# Altium footprint library LED5630.PcbLib: 1 footprints
Each footprint in its own frame and in the unit in brackets; x right, y up, seen from the top. Pads: shape width x height; smd on the part's side, far side on the other; paste and mask are expansions set on the pad; w line width, h text height; cw(c..) or ccw(c..) is an arc to the next point about the centre after c.
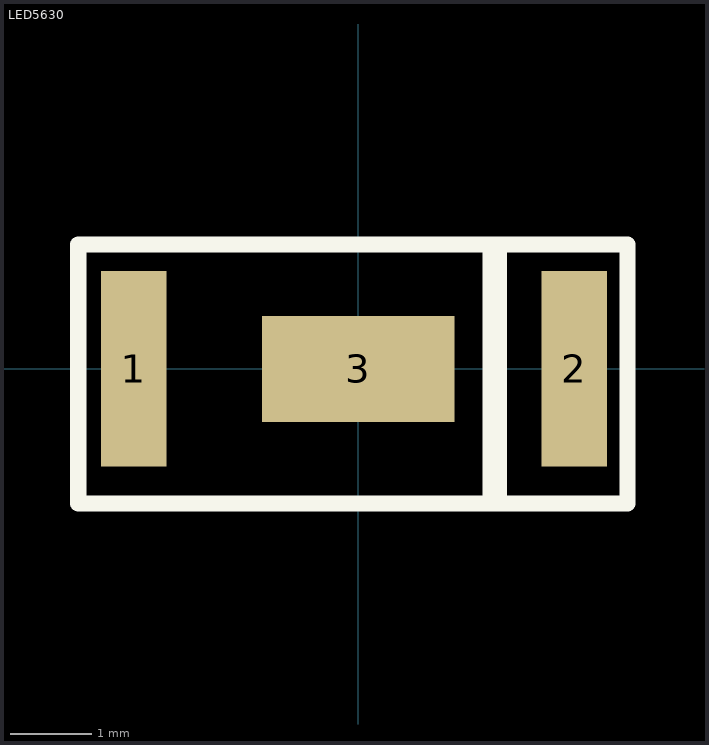
[diagram p0: the footprint, top view; thin cyan lines are the x and y axes]

## LED5630 [mm]
height 0.55
pads (3):
  rect 0.8x2.4 smd: 1(-2.75,0) 2(2.65,0)
  rect 2.36x1.3 smd: 3(0,0)
Top Overlay:
  lines w0.2: -3.429,-1.651 3.302,-1.651 3.302,1.524 -3.429,1.524 -3.429,-1.651
  lines w0.3: 1.678,-1.524 1.678,1.397
Top Assembly:
  lines w0.1: -3.429,-1.651 3.302,-1.651 3.302,1.524 -3.429,1.524 -3.429,-1.651
  text "'.Designator'" at -0.975,-0.35 h0.7
3D body "LED5630.x_t": height 0.9, standoff 0, extent -2.85,-1.6 2.75,1.4